# EAGLE library part MAX485EPA+ (library MAX485EPA_)
Check availability <https://pricing.snapeda.com/parts/MAX485EPA%2B/Analog%20Devices/view-part?ref=eda>
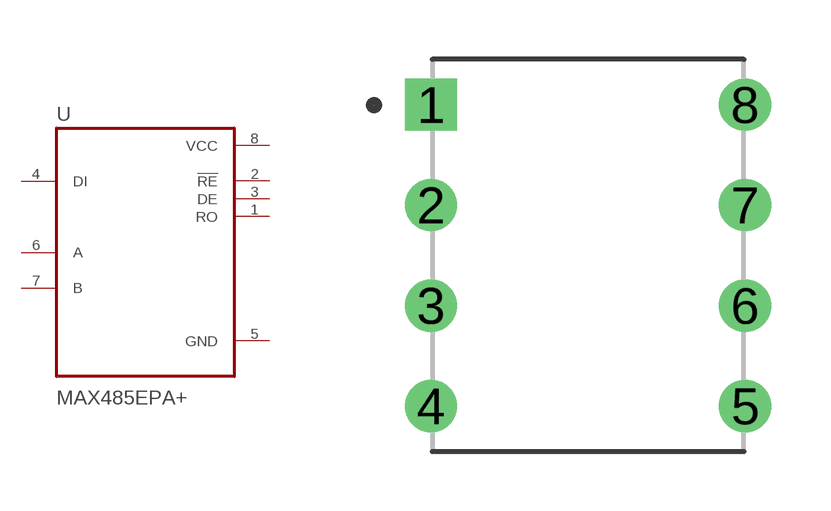
[diagram p0: symbol with the pads of DIP794W47P254L991H457Q8; footprint DIP794W47P254L991H457Q8]

Designator prefix U

## MAX485EPA+ (AVAILABILITY: In Stock; CHECK_PRICES: https://www.snapeda.com/parts/MAX485EPA+/Analog+Devices/view-part/?ref=eda; DESCRIPTION: Low-Power, Slew-Rate-Limited RS-485/RS-422 Transceivers; MF: Analog Devices; MP: MAX485EPA+; PACKAGE: PDIP-8 Maxim; PRICE: None; SNAPEDA_LINK: https://www.snapeda.com/parts/MAX485EPA+/Analog+Devices/view-part/?ref=snap)  [DIP794W47P254L991H457Q8]
1  RO  out
2  !RE  out
3  DE  out
4  DI  in
5  GND  pwr
6  A
7  B
8  VCC  pwr

## Footprint DIP794W47P254L991H457Q8 (pad centres in mm)
drill 0.81 pad 1.22 square: 1 -3.97,3.81
drill 0.81 pad 1.22: 2 -3.97,1.27; 3 -3.97,-1.27; 4 -3.97,-3.81; 5 3.97,-3.81; 6 3.97,-1.27; 7 3.97,1.27; 8 3.97,3.81